# Altium schematic symbol library WE-FI.SchLib: 47 symbols
Pins are listed as number, name and electrical type; pins without a type are passive.

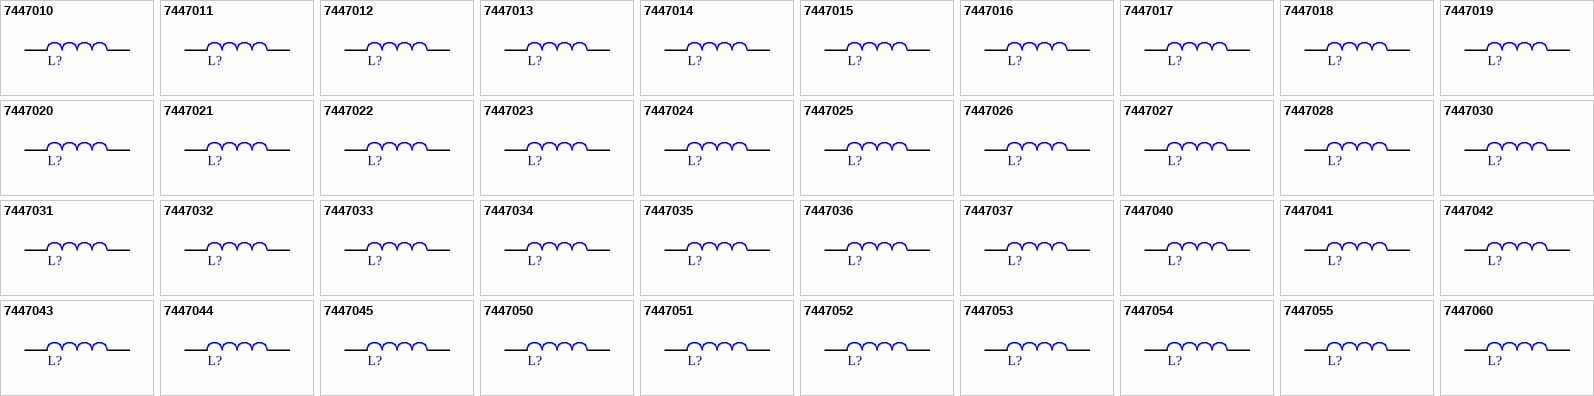
[diagram p0: symbols 7447010 to 7447060]

## 7447010
designator L?, comment 470µH  (value not drawn)
WE-FI THT Leaded Toroidal Line Choke, 470µH, 1.6A, 0.225Ω; Manufacturer Part Number: 7447010; Manufacturer: Wurth Elektronik; Category: Filter Chokes; Match Code: WE-FI; ComponentLink1Description: Website Link; ComponentLink1URL: https://www.we-online.com/redexpert/article/7447010?ad; ComponentLink2Description: Datasheet Link; ComponentLink2URL: https://www.we-online.com/redexpert/spec/7447010?ad; Mount: Through Hole; Operating Temperature Max: 105°C; Operating Temperature Min: -40°C; Packaging: Tray; Length: 18.5mm; Width: 11.6mm; Height: 18.5mm; DC Resistance Max: 0.225Ω; Inductance: 470µH; Rated Current: 1.6A
footprint 7447010
simulation model 7447010_470u
pins: 1, 2

## 7447011
designator L?, comment 130µH  (value not drawn)
WE-FI THT Leaded Toroidal Line Choke, 130µH, 2.6A, 0.085Ω; Manufacturer Part Number: 7447011; Manufacturer: Wurth Elektronik; Category: Filter Chokes; Match Code: WE-FI; ComponentLink1Description: Website Link; ComponentLink1URL: https://www.we-online.com/redexpert/article/7447011?ad; ComponentLink2Description: Datasheet Link; ComponentLink2URL: https://www.we-online.com/redexpert/spec/7447011?ad; Mount: Through Hole; Operating Temperature Max: 105°C; Operating Temperature Min: -40°C; Packaging: Tray; Length: 18.5mm; Width: 10.7mm; Height: 18.5mm; DC Resistance Max: 0.085Ω; Inductance: 130µH; Rated Current: 2.6A
footprint 7447011
simulation model 7447011_130u
pins: 1, 2

## 7447012
designator L?, comment 110µH  (value not drawn)
WE-FI THT Leaded Toroidal Line Choke, 110µH, 2.9A, 0.07Ω; Manufacturer Part Number: 7447012; Manufacturer: Wurth Elektronik; Category: Filter Chokes; Match Code: WE-FI; ComponentLink1Description: Website Link; ComponentLink1URL: https://www.we-online.com/redexpert/article/7447012?ad; ComponentLink2Description: Datasheet Link; ComponentLink2URL: https://www.we-online.com/redexpert/spec/7447012?ad; Mount: Through Hole; Operating Temperature Max: 105°C; Operating Temperature Min: -40°C; Packaging: Tray; Length: 18mm; Width: 10.7mm; Height: 18mm; DC Resistance Max: 0.07Ω; Inductance: 110µH; Rated Current: 2.9A
footprint 7447012
simulation model 7447012_110u
pins: 1, 2

## 7447013
designator L?, comment 90µH  (value not drawn)
WE-FI THT Leaded Toroidal Line Choke, 90µH, 4.6A, 0.04Ω; Manufacturer Part Number: 7447013; Manufacturer: Wurth Elektronik; Category: Filter Chokes; Match Code: WE-FI; ComponentLink1Description: Website Link; ComponentLink1URL: https://www.we-online.com/redexpert/article/7447013?ad; ComponentLink2Description: Datasheet Link; ComponentLink2URL: https://www.we-online.com/redexpert/spec/7447013?ad; Mount: Through Hole; Operating Temperature Max: 105°C; Operating Temperature Min: -40°C; Packaging: Tray; Length: 18.5mm; Width: 10.5mm; Height: 18.5mm; DC Resistance Max: 0.04Ω; Inductance: 90µH; Rated Current: 4.6A
footprint 7447013
simulation model 7447013_90u
pins: 1, 2

## 7447014
designator L?, comment 58µH  (value not drawn)
WE-FI THT Leaded Toroidal Line Choke, 58µH, 3.2A, 0.055Ω; Manufacturer Part Number: 7447014; Manufacturer: Wurth Elektronik; Category: Filter Chokes; Match Code: WE-FI; ComponentLink1Description: Website Link; ComponentLink1URL: https://www.we-online.com/redexpert/article/7447014?ad; ComponentLink2Description: Datasheet Link; ComponentLink2URL: https://www.we-online.com/redexpert/spec/7447014?ad; Mount: Through Hole; Operating Temperature Max: 105°C; Operating Temperature Min: -40°C; Packaging: Tray; Length: 18.5mm; Width: 9.2mm; Height: 18.5mm; DC Resistance Max: 0.055Ω; Inductance: 58µH; Rated Current: 3.2A
footprint 7447014
simulation model 7447014_58u
pins: 1, 2

## 7447015
designator L?, comment 35µH  (value not drawn)
WE-FI THT Leaded Toroidal Line Choke, 35µH, 5.7A, 0.025Ω; Manufacturer Part Number: 7447015; Manufacturer: Wurth Elektronik; Category: Filter Chokes; Match Code: WE-FI; ComponentLink1Description: Website Link; ComponentLink1URL: https://www.we-online.com/redexpert/article/7447015?ad; ComponentLink2Description: Datasheet Link; ComponentLink2URL: https://www.we-online.com/redexpert/spec/7447015?ad; Mount: Through Hole; Operating Temperature Max: 105°C; Operating Temperature Min: -40°C; Packaging: Tray; Length: 18.5mm; Width: 11mm; Height: 18.5mm; DC Resistance Max: 0.025Ω; Inductance: 35µH; Rated Current: 5.7A
footprint 7447015
simulation model 7447015_35u
pins: 1, 2

## 7447016
designator L?, comment 29µH  (value not drawn)
WE-FI THT Leaded Toroidal Line Choke, 29µH, 8A, 0.015Ω; Manufacturer Part Number: 7447016; Manufacturer: Wurth Elektronik; Category: Filter Chokes; Match Code: WE-FI; ComponentLink1Description: Website Link; ComponentLink1URL: https://www.we-online.com/redexpert/article/7447016?ad; ComponentLink2Description: Datasheet Link; ComponentLink2URL: https://www.we-online.com/redexpert/spec/7447016?ad; Mount: Through Hole; Operating Temperature Max: 105°C; Operating Temperature Min: -40°C; Packaging: Tray; Length: 19mm; Width: 11.1mm; Height: 19mm; DC Resistance Max: 0.015Ω; Inductance: 29µH; Rated Current: 8A
footprint 7447016
simulation model 7447016_29u
pins: 1, 2

## 7447017
designator L?, comment 22µH  (value not drawn)
WE-FI THT Leaded Toroidal Line Choke, 22µH, 9A, 0.015Ω; Manufacturer Part Number: 7447017; Manufacturer: Wurth Elektronik; Category: Filter Chokes; Match Code: WE-FI; ComponentLink1Description: Website Link; ComponentLink1URL: https://www.we-online.com/redexpert/article/7447017?ad; ComponentLink2Description: Datasheet Link; ComponentLink2URL: https://www.we-online.com/redexpert/spec/7447017?ad; Mount: Through Hole; Operating Temperature Max: 105°C; Operating Temperature Min: -40°C; Packaging: Tray; Length: 19mm; Width: 11.1mm; Height: 19mm; DC Resistance Max: 0.015Ω; Inductance: 22µH; Rated Current: 9A
footprint 7447017
simulation model 7447017_22u
pins: 1, 2

## 7447018
designator L?, comment 150µH  (value not drawn)
WE-FI THT Leaded Toroidal Line Choke, 150µH, 2.5A, 0.1Ω; Manufacturer Part Number: 7447018; Manufacturer: Wurth Elektronik; Category: Filter Chokes; Match Code: WE-FI; ComponentLink1Description: Website Link; ComponentLink1URL: https://www.we-online.com/redexpert/article/7447018?ad; ComponentLink2Description: Datasheet Link; ComponentLink2URL: https://www.we-online.com/redexpert/spec/7447018?ad; Mount: Through Hole; Operating Temperature Max: 105°C; Operating Temperature Min: -40°C; Packaging: Tray; Length: 16.5mm; Width: 10.7mm; Height: 16.5mm; DC Resistance Max: 0.1Ω; Inductance: 150µH; Rated Current: 2.5A
footprint 7447018
simulation model 7447018_150u
pins: 1, 2

## 7447019
designator L?, comment 700µH  (value not drawn)
WE-FI THT Leaded Toroidal Line Choke, 700µH, 5.1A, 0.12Ω; Manufacturer Part Number: 7447019; Manufacturer: Wurth Elektronik; Category: Filter Chokes; Match Code: WE-FI; ComponentLink1Description: Website Link; ComponentLink1URL: https://www.we-online.com/redexpert/article/7447019?ad; ComponentLink2Description: Datasheet Link; ComponentLink2URL: https://www.we-online.com/redexpert/spec/7447019?ad; Mount: Through Hole; Operating Temperature Max: 105°C; Operating Temperature Min: -40°C; Packaging: Tray; Length: 38mm; Width: 17.2mm; Height: 38mm; DC Resistance Max: 0.12Ω; Inductance: 700µH; Rated Current: 5.1A
footprint 7447019
simulation model 7447019_700u
pins: 1, 2

## 7447020
designator L?, comment 220µH  (value not drawn)
WE-FI THT Leaded Toroidal Line Choke, 220µH, 2A, 0.16Ω; Manufacturer Part Number: 7447020; Manufacturer: Wurth Elektronik; Category: Filter Chokes; Match Code: WE-FI; ComponentLink1Description: Website Link; ComponentLink1URL: https://www.we-online.com/redexpert/article/7447020?ad; ComponentLink2Description: Datasheet Link; ComponentLink2URL: https://www.we-online.com/redexpert/spec/7447020?ad; Mount: Through Hole; Operating Temperature Max: 105°C; Operating Temperature Min: -40°C; Packaging: Tray; Length: 15.8mm; Width: 9.6mm; Height: 15.8mm; DC Resistance Max: 0.16Ω; Inductance: 220µH; Rated Current: 2A
footprint 7447020
simulation model 7447020_220u
pins: 1, 2

## 7447021
designator L?, comment 100µH  (value not drawn)
WE-FI THT Leaded Toroidal Line Choke, 100µH, 2.5A, 0.08Ω; Manufacturer Part Number: 7447021; Manufacturer: Wurth Elektronik; Category: Filter Chokes; Match Code: WE-FI; ComponentLink1Description: Website Link; ComponentLink1URL: https://www.we-online.com/redexpert/article/7447021?ad; ComponentLink2Description: Datasheet Link; ComponentLink2URL: https://www.we-online.com/redexpert/spec/7447021?ad; Mount: Through Hole; Operating Temperature Max: 105°C; Operating Temperature Min: -40°C; Packaging: Tray; Length: 16.5mm; Width: 9.7mm; Height: 16.5mm; DC Resistance Max: 0.08Ω; Inductance: 100µH; Rated Current: 2.5A
footprint 7447021
simulation model 7447021_100u
pins: 1, 2

## 7447022
designator L?, comment 68µH  (value not drawn)
WE-FI THT Leaded Toroidal Line Choke, 68µH, 2.5A, 0.08Ω; Manufacturer Part Number: 7447022; Manufacturer: Wurth Elektronik; Category: Filter Chokes; Match Code: WE-FI; ComponentLink1Description: Website Link; ComponentLink1URL: https://www.we-online.com/redexpert/article/7447022?ad; ComponentLink2Description: Datasheet Link; ComponentLink2URL: https://www.we-online.com/redexpert/spec/7447022?ad; Mount: Through Hole; Operating Temperature Max: 105°C; Operating Temperature Min: -40°C; Packaging: Tray; Length: 15.5mm; Width: 7.6mm; Height: 15.5mm; DC Resistance Max: 0.08Ω; Inductance: 68µH; Rated Current: 2.5A
footprint 7447022
simulation model 7447022_68u
pins: 1, 2

## 7447023
designator L?, comment 60µH  (value not drawn)
WE-FI THT Leaded Toroidal Line Choke, 60µH, 4.1A, 0.04Ω; Manufacturer Part Number: 7447023; Manufacturer: Wurth Elektronik; Category: Filter Chokes; Match Code: WE-FI; ComponentLink1Description: Website Link; ComponentLink1URL: https://www.we-online.com/redexpert/article/7447023?ad; ComponentLink2Description: Datasheet Link; ComponentLink2URL: https://www.we-online.com/redexpert/spec/7447023?ad; Mount: Through Hole; Operating Temperature Max: 105°C; Operating Temperature Min: -40°C; Packaging: Tray; Length: 16mm; Width: 9.9mm; Height: 16mm; DC Resistance Max: 0.04Ω; Inductance: 60µH; Rated Current: 4.1A
footprint 7447023
simulation model 7447023_60u
pins: 1, 2

## 7447024
designator L?, comment 30µH  (value not drawn)
WE-FI THT Leaded Toroidal Line Choke, 30µH, 3.7A, 0.04Ω; Manufacturer Part Number: 7447024; Manufacturer: Wurth Elektronik; Category: Filter Chokes; Match Code: WE-FI; ComponentLink1Description: Website Link; ComponentLink1URL: https://www.we-online.com/redexpert/article/7447024?ad; ComponentLink2Description: Datasheet Link; ComponentLink2URL: https://www.we-online.com/redexpert/spec/7447024?ad; Mount: Through Hole; Operating Temperature Max: 105°C; Operating Temperature Min: -40°C; Packaging: Tray; Length: 15.6mm; Width: 8.7mm; Height: 15.6mm; DC Resistance Max: 0.04Ω; Inductance: 30µH; Rated Current: 3.7A
footprint 7447024
simulation model 7447024_30u
pins: 1, 2

## 7447025
designator L?, comment 20µH  (value not drawn)
WE-FI THT Leaded Toroidal Line Choke, 20µH, 5.7A, 0.02Ω; Manufacturer Part Number: 7447025; Manufacturer: Wurth Elektronik; Category: Filter Chokes; Match Code: WE-FI; ComponentLink1Description: Website Link; ComponentLink1URL: https://www.we-online.com/redexpert/article/7447025?ad; ComponentLink2Description: Datasheet Link; ComponentLink2URL: https://www.we-online.com/redexpert/spec/7447025?ad; Mount: Through Hole; Operating Temperature Max: 105°C; Operating Temperature Min: -40°C; Packaging: Tray; Length: 16mm; Width: 9.5mm; Height: 16mm; DC Resistance Max: 0.02Ω; Inductance: 20µH; Rated Current: 5.7A
footprint 7447025
simulation model 7447025_20u
pins: 1, 2

## 7447026
designator L?, comment 10µH  (value not drawn)
WE-FI THT Leaded Toroidal Line Choke, 10µH, 8A, 0.01Ω; Manufacturer Part Number: 7447026; Manufacturer: Wurth Elektronik; Category: Filter Chokes; Match Code: WE-FI; ComponentLink1Description: Website Link; ComponentLink1URL: https://www.we-online.com/redexpert/article/7447026?ad; ComponentLink2Description: Datasheet Link; ComponentLink2URL: https://www.we-online.com/redexpert/spec/7447026?ad; Mount: Through Hole; Operating Temperature Max: 105°C; Operating Temperature Min: -40°C; Packaging: Tray; Length: 17.5mm; Width: 9.1mm; Height: 17.5mm; DC Resistance Max: 0.01Ω; Inductance: 10µH; Rated Current: 8A
footprint 7447026
simulation model 7447026_10u
pins: 1, 2

## 7447027
designator L?, comment 20µH  (value not drawn)
WE-FI THT Leaded Toroidal Line Choke, 20µH, 7A, 0.015Ω; Manufacturer Part Number: 7447027; Manufacturer: Wurth Elektronik; Category: Filter Chokes; Match Code: WE-FI; ComponentLink1Description: Website Link; ComponentLink1URL: https://www.we-online.com/redexpert/article/7447027?ad; ComponentLink2Description: Datasheet Link; ComponentLink2URL: https://www.we-online.com/redexpert/spec/7447027?ad; Mount: Through Hole; Operating Temperature Max: 105°C; Operating Temperature Min: -40°C; Packaging: Tray; Length: 18.5mm; Width: 9mm; Height: 18.5mm; DC Resistance Max: 0.015Ω; Inductance: 20µH; Rated Current: 7A
footprint 7447027
simulation model 7447027_20u
pins: 1, 2

## 7447028
designator L?, comment 150µH  (value not drawn)
WE-FI THT Leaded Toroidal Line Choke, 150µH, 1.9A, 0.13Ω; Manufacturer Part Number: 7447028; Manufacturer: Wurth Elektronik; Category: Filter Chokes; Match Code: WE-FI; ComponentLink1Description: Website Link; ComponentLink1URL: https://www.we-online.com/redexpert/article/7447028?ad; ComponentLink2Description: Datasheet Link; ComponentLink2URL: https://www.we-online.com/redexpert/spec/7447028?ad; Mount: Through Hole; Operating Temperature Max: 105°C; Operating Temperature Min: -40°C; Packaging: Tray; Length: 16mm; Width: 9.1mm; Height: 16mm; DC Resistance Max: 0.13Ω; Inductance: 150µH; Rated Current: 1.9A
footprint 7447028
simulation model 7447028_150u
pins: 1, 2

## 7447030
designator L?, comment 36µH  (value not drawn)
WE-FI THT Leaded Toroidal Line Choke, 36µH, 1.6A, 0.4Ω; Manufacturer Part Number: 7447030; Manufacturer: Wurth Elektronik; Category: Filter Chokes; Match Code: WE-FI; ComponentLink1Description: Website Link; ComponentLink1URL: https://www.we-online.com/redexpert/article/7447030?ad; ComponentLink2Description: Datasheet Link; ComponentLink2URL: https://www.we-online.com/redexpert/spec/7447030?ad; Mount: Through Hole; Operating Temperature Max: 105°C; Operating Temperature Min: -40°C; Packaging: Tray; Length: 13.5mm; Width: 7.4mm; Height: 13.5mm; DC Resistance Max: 0.4Ω; Inductance: 36µH; Rated Current: 1.6A
footprint 7447030
simulation model 7447030_36u
pins: 1, 2

## 7447031
designator L?, comment 140µH  (value not drawn)
WE-FI THT Leaded Toroidal Line Choke, 140µH, 2A, 0.11Ω; Manufacturer Part Number: 7447031; Manufacturer: Wurth Elektronik; Category: Filter Chokes; Match Code: WE-FI; ComponentLink1Description: Website Link; ComponentLink1URL: https://www.we-online.com/redexpert/article/7447031?ad; ComponentLink2Description: Datasheet Link; ComponentLink2URL: https://www.we-online.com/redexpert/spec/7447031?ad; Mount: Through Hole; Operating Temperature Max: 105°C; Operating Temperature Min: -40°C; Packaging: Tray; Length: 13.5mm; Width: 8.6mm; Height: 13.5mm; DC Resistance Max: 0.11Ω; Inductance: 140µH; Rated Current: 2A
footprint 7447031
simulation model 7447031_140u
pins: 1, 2

## 7447032
designator L?, comment 110µH  (value not drawn)
WE-FI THT Leaded Toroidal Line Choke, 110µH, 1.3A, 0.23Ω; Manufacturer Part Number: 7447032; Manufacturer: Wurth Elektronik; Category: Filter Chokes; Match Code: WE-FI; ComponentLink1Description: Website Link; ComponentLink1URL: https://www.we-online.com/redexpert/article/7447032?ad; ComponentLink2Description: Datasheet Link; ComponentLink2URL: https://www.we-online.com/redexpert/spec/7447032?ad; Mount: Through Hole; Operating Temperature Max: 105°C; Operating Temperature Min: -40°C; Packaging: Tray; Length: 13.5mm; Width: 7.4mm; Height: 13.5mm; DC Resistance Max: 0.23Ω; Inductance: 110µH; Rated Current: 1.3A
footprint 7447032
simulation model 7447032_110u
pins: 1, 2

## 7447033
designator L?, comment 68µH  (value not drawn)
WE-FI THT Leaded Toroidal Line Choke, 68µH, 2.8A, 0.055Ω; Manufacturer Part Number: 7447033; Manufacturer: Wurth Elektronik; Category: Filter Chokes; Match Code: WE-FI; ComponentLink1Description: Website Link; ComponentLink1URL: https://www.we-online.com/redexpert/article/7447033?ad; ComponentLink2Description: Datasheet Link; ComponentLink2URL: https://www.we-online.com/redexpert/spec/7447033?ad; Mount: Through Hole; Operating Temperature Max: 105°C; Operating Temperature Min: -40°C; Packaging: Tray; Length: 14mm; Width: 8.7mm; Height: 14mm; DC Resistance Max: 0.055Ω; Inductance: 68µH; Rated Current: 2.8A
footprint 7447033
simulation model 7447033_68u
pins: 1, 2

## 7447034
designator L?, comment 43µH  (value not drawn)
WE-FI THT Leaded Toroidal Line Choke, 43µH, 2.6A, 0.06Ω; Manufacturer Part Number: 7447034; Manufacturer: Wurth Elektronik; Category: Filter Chokes; Match Code: WE-FI; ComponentLink1Description: Website Link; ComponentLink1URL: https://www.we-online.com/redexpert/article/7447034?ad; ComponentLink2Description: Datasheet Link; ComponentLink2URL: https://www.we-online.com/redexpert/spec/7447034?ad; Mount: Through Hole; Operating Temperature Max: 105°C; Operating Temperature Min: -40°C; Packaging: Tray; Length: 13.5mm; Width: 7.5mm; Height: 13.5mm; DC Resistance Max: 0.06Ω; Inductance: 43µH; Rated Current: 2.6A
footprint 7447034
simulation model 7447034_43u
pins: 1, 2

## 7447035
designator L?, comment 15µH  (value not drawn)
WE-FI THT Leaded Toroidal Line Choke, 15µH, 4.5A, 0.025Ω; Manufacturer Part Number: 7447035; Manufacturer: Wurth Elektronik; Category: Filter Chokes; Match Code: WE-FI; ComponentLink1Description: Website Link; ComponentLink1URL: https://www.we-online.com/redexpert/article/7447035?ad; ComponentLink2Description: Datasheet Link; ComponentLink2URL: https://www.we-online.com/redexpert/spec/7447035?ad; Mount: Through Hole; Operating Temperature Max: 105°C; Operating Temperature Min: -40°C; Packaging: Tray; Length: 13.5mm; Width: 6.7mm; Height: 13.5mm; DC Resistance Max: 0.025Ω; Inductance: 15µH; Rated Current: 4.5A
footprint 7447035
simulation model 7447035_15u
pins: 1, 2

## 7447036
designator L?, comment 220µH  (value not drawn)
WE-FI THT Leaded Toroidal Line Choke, 220µH, 1.4A, 0.22Ω; Manufacturer Part Number: 7447036; Manufacturer: Wurth Elektronik; Category: Filter Chokes; Match Code: WE-FI; ComponentLink1Description: Website Link; ComponentLink1URL: https://www.we-online.com/redexpert/article/7447036?ad; ComponentLink2Description: Datasheet Link; ComponentLink2URL: https://www.we-online.com/redexpert/spec/7447036?ad; Mount: Through Hole; Operating Temperature Max: 105°C; Operating Temperature Min: -40°C; Packaging: Tray; Length: 14mm; Width: 8.5mm; Height: 14mm; DC Resistance Max: 0.22Ω; Inductance: 220µH; Rated Current: 1.4A
footprint 7447036
simulation model 7447036_220u
pins: 1, 2

## 7447037
designator L?, comment 360µH  (value not drawn)
WE-FI THT Leaded Toroidal Line Choke, 360µH, 0.9A, 0.45Ω; Manufacturer Part Number: 7447037; Manufacturer: Wurth Elektronik; Category: Filter Chokes; Match Code: WE-FI; ComponentLink1Description: Website Link; ComponentLink1URL: https://www.we-online.com/redexpert/article/7447037?ad; ComponentLink2Description: Datasheet Link; ComponentLink2URL: https://www.we-online.com/redexpert/spec/7447037?ad; Mount: Through Hole; Operating Temperature Max: 105°C; Operating Temperature Min: -40°C; Packaging: Tray; Length: 13.5mm; Width: 7.3mm; Height: 13.5mm; DC Resistance Max: 0.45Ω; Inductance: 360µH; Rated Current: 0.9A
footprint 7447037
simulation model 7447037_360u
pins: 1, 2

## 7447040
designator L?, comment 240µH  (value not drawn)
WE-FI THT Leaded Toroidal Line Choke, 240µH, 1A, 0.38Ω; Manufacturer Part Number: 7447040; Manufacturer: Wurth Elektronik; Category: Filter Chokes; Match Code: WE-FI; ComponentLink1Description: Website Link; ComponentLink1URL: https://www.we-online.com/redexpert/article/7447040?ad; ComponentLink2Description: Datasheet Link; ComponentLink2URL: https://www.we-online.com/redexpert/spec/7447040?ad; Mount: Through Hole; Operating Temperature Max: 105°C; Operating Temperature Min: -40°C; Packaging: Tray; Length: 11.5mm; Width: 6.9mm; Height: 11.5mm; DC Resistance Max: 0.38Ω; Inductance: 240µH; Rated Current: 1A
footprint 7447040
simulation model 7447040_240u
pins: 1, 2

## 7447041
designator L?, comment 68µH  (value not drawn)
WE-FI THT Leaded Toroidal Line Choke, 68µH, 1.5A, 0.1Ω; Manufacturer Part Number: 7447041; Manufacturer: Wurth Elektronik; Category: Filter Chokes; Match Code: WE-FI; ComponentLink1Description: Website Link; ComponentLink1URL: https://www.we-online.com/redexpert/article/7447041?ad; ComponentLink2Description: Datasheet Link; ComponentLink2URL: https://www.we-online.com/redexpert/spec/7447041?ad; Mount: Through Hole; Operating Temperature Max: 105°C; Operating Temperature Min: -40°C; Packaging: Tray; Length: 12mm; Width: 7mm; Height: 12mm; DC Resistance Max: 0.1Ω; Inductance: 68µH; Rated Current: 1.5A
footprint 7447041
simulation model 7447041_68u
pins: 1, 2

## 7447042
designator L?, comment 56µH  (value not drawn)
WE-FI THT Leaded Toroidal Line Choke, 56µH, 1.4A, 0.18Ω; Manufacturer Part Number: 7447042; Manufacturer: Wurth Elektronik; Category: Filter Chokes; Match Code: WE-FI; ComponentLink1Description: Website Link; ComponentLink1URL: https://www.we-online.com/redexpert/article/7447042?ad; ComponentLink2Description: Datasheet Link; ComponentLink2URL: https://www.we-online.com/redexpert/spec/7447042?ad; Mount: Through Hole; Operating Temperature Max: 105°C; Operating Temperature Min: -40°C; Packaging: Tray; Length: 11.5mm; Width: 5mm; Height: 11.5mm; DC Resistance Max: 0.18Ω; Inductance: 56µH; Rated Current: 1.4A
footprint 7447042
simulation model 7447042_56u
pins: 1, 2

## 7447043
designator L?, comment 24µH  (value not drawn)
WE-FI THT Leaded Toroidal Line Choke, 24µH, 3A, 0.045Ω; Manufacturer Part Number: 7447043; Manufacturer: Wurth Elektronik; Category: Filter Chokes; Match Code: WE-FI; ComponentLink1Description: Website Link; ComponentLink1URL: https://www.we-online.com/redexpert/article/7447043?ad; ComponentLink2Description: Datasheet Link; ComponentLink2URL: https://www.we-online.com/redexpert/spec/7447043?ad; Mount: Through Hole; Operating Temperature Max: 105°C; Operating Temperature Min: -40°C; Packaging: Tray; Length: 12mm; Width: 5.5mm; Height: 12mm; DC Resistance Max: 0.045Ω; Inductance: 24µH; Rated Current: 3A
footprint 7447043
simulation model 7447043_24u
pins: 1, 2

## 7447044
designator L?, comment 22µH  (value not drawn)
WE-FI THT Leaded Toroidal Line Choke, 22µH, 3.5A, 0.03Ω; Manufacturer Part Number: 7447044; Manufacturer: Wurth Elektronik; Category: Filter Chokes; Match Code: WE-FI; ComponentLink1Description: Website Link; ComponentLink1URL: https://www.we-online.com/redexpert/article/7447044?ad; ComponentLink2Description: Datasheet Link; ComponentLink2URL: https://www.we-online.com/redexpert/spec/7447044?ad; Mount: Through Hole; Operating Temperature Max: 105°C; Operating Temperature Min: -40°C; Packaging: Tray; Length: 12mm; Width: 7.7mm; Height: 12mm; DC Resistance Max: 0.03Ω; Inductance: 22µH; Rated Current: 3.5A
footprint 7447044
simulation model 7447044_22u
pins: 1, 2

## 7447045
designator L?, comment 8.2µH  (value not drawn)
WE-FI THT Leaded Toroidal Line Choke, 8.2µH, 5A, 0.02Ω; Manufacturer Part Number: 7447045; Manufacturer: Wurth Elektronik; Category: Filter Chokes; Match Code: WE-FI; ComponentLink1Description: Website Link; ComponentLink1URL: https://www.we-online.com/redexpert/article/7447045?ad; ComponentLink2Description: Datasheet Link; ComponentLink2URL: https://www.we-online.com/redexpert/spec/7447045?ad; Mount: Through Hole; Operating Temperature Max: 105°C; Operating Temperature Min: -40°C; Packaging: Tray; Length: 12mm; Width: 5.5mm; Height: 12mm; DC Resistance Max: 0.02Ω; Inductance: 8.2µH; Rated Current: 5A
footprint 7447045
simulation model 7447045_8.2u
pins: 1, 2

## 7447050
designator L?, comment 140µH  (value not drawn)
WE-FI THT Leaded Toroidal Line Choke, 140µH, 1.1A, 0.26Ω; Manufacturer Part Number: 7447050; Manufacturer: Wurth Elektronik; Category: Filter Chokes; Match Code: WE-FI; ComponentLink1Description: Website Link; ComponentLink1URL: https://www.we-online.com/redexpert/article/7447050?ad; ComponentLink2Description: Datasheet Link; ComponentLink2URL: https://www.we-online.com/redexpert/spec/7447050?ad; Mount: Through Hole; Operating Temperature Max: 105°C; Operating Temperature Min: -40°C; Packaging: Tray; Length: 9.5mm; Width: 6mm; Height: 9.5mm; DC Resistance Max: 0.26Ω; Inductance: 140µH; Rated Current: 1.1A
footprint 7447050
simulation model 7447050_140u
pins: 1, 2

## 7447051
designator L?, comment 37µH  (value not drawn)
WE-FI THT Leaded Toroidal Line Choke, 37µH, 1.3A, 0.12Ω; Manufacturer Part Number: 7447051; Manufacturer: Wurth Elektronik; Category: Filter Chokes; Match Code: WE-FI; ComponentLink1Description: Website Link; ComponentLink1URL: https://www.we-online.com/redexpert/article/7447051?ad; ComponentLink2Description: Datasheet Link; ComponentLink2URL: https://www.we-online.com/redexpert/spec/7447051?ad; Mount: Through Hole; Operating Temperature Max: 105°C; Operating Temperature Min: -40°C; Packaging: Tray; Length: 9.5mm; Width: 6.4mm; Height: 9.5mm; DC Resistance Max: 0.12Ω; Inductance: 37µH; Rated Current: 1.3A
footprint 7447051
simulation model 7447051_37u
pins: 1, 2

## 7447052
designator L?, comment 32µH  (value not drawn)
WE-FI THT Leaded Toroidal Line Choke, 32µH, 2.6A, 0.045Ω; Manufacturer Part Number: 7447052; Manufacturer: Wurth Elektronik; Category: Filter Chokes; Match Code: WE-FI; ComponentLink1Description: Website Link; ComponentLink1URL: https://www.we-online.com/redexpert/article/7447052?ad; ComponentLink2Description: Datasheet Link; ComponentLink2URL: https://www.we-online.com/redexpert/spec/7447052?ad; Mount: Through Hole; Operating Temperature Max: 105°C; Operating Temperature Min: -40°C; Packaging: Tray; Length: 10mm; Width: 6.6mm; Height: 10mm; DC Resistance Max: 0.045Ω; Inductance: 32µH; Rated Current: 2.6A
footprint 7447052
simulation model 7447052_32u
pins: 1, 2

## 7447053
designator L?, comment 12µH  (value not drawn)
WE-FI THT Leaded Toroidal Line Choke, 12µH, 1A, 0.03Ω; Manufacturer Part Number: 7447053; Manufacturer: Wurth Elektronik; Category: Filter Chokes; Match Code: WE-FI; ComponentLink1Description: Website Link; ComponentLink1URL: https://www.we-online.com/redexpert/article/7447053?ad; ComponentLink2Description: Datasheet Link; ComponentLink2URL: https://www.we-online.com/redexpert/spec/7447053?ad; Mount: Through Hole; Operating Temperature Max: 105°C; Operating Temperature Min: -40°C; Packaging: Tray; Length: 10mm; Width: 5mm; Height: 10mm; DC Resistance Max: 0.03Ω; Inductance: 12µH; Rated Current: 1A
footprint 7447053
simulation model 7447053_12u
pins: 1, 2

## 7447054
designator L?, comment 10µH  (value not drawn)
WE-FI THT Leaded Toroidal Line Choke, 10µH, 5A, 0.02Ω; Manufacturer Part Number: 7447054; Manufacturer: Wurth Elektronik; Category: Filter Chokes; Match Code: WE-FI; ComponentLink1Description: Website Link; ComponentLink1URL: https://www.we-online.com/redexpert/article/7447054?ad; ComponentLink2Description: Datasheet Link; ComponentLink2URL: https://www.we-online.com/redexpert/spec/7447054?ad; Mount: Through Hole; Operating Temperature Max: 105°C; Operating Temperature Min: -40°C; Packaging: Tray; Length: 10.5mm; Width: 7.8mm; Height: 10.5mm; DC Resistance Max: 0.02Ω; Inductance: 10µH; Rated Current: 5A
footprint 7447054
simulation model 7447054_10u
pins: 1, 2

## 7447055
designator L?, comment 150µH  (value not drawn)
WE-FI THT Leaded Toroidal Line Choke, 150µH, 5.4A, 0.042Ω; Manufacturer Part Number: 7447055; Manufacturer: Wurth Elektronik; Category: Filter Chokes; Match Code: WE-FI; ComponentLink1Description: Website Link; ComponentLink1URL: https://www.we-online.com/redexpert/article/7447055?ad; ComponentLink2Description: Datasheet Link; ComponentLink2URL: https://www.we-online.com/redexpert/spec/7447055?ad; Mount: Through Hole; Operating Temperature Max: 105°C; Operating Temperature Min: -40°C; Packaging: Tray; Length: 26mm; Width: 13mm; Height: 26mm; DC Resistance Max: 0.042Ω; Inductance: 150µH; Rated Current: 5.4A
footprint 7447055
simulation model 7447055_150u
pins: 1, 2

## 7447060
designator L?, comment 300µH  (value not drawn)
WE-FI THT Leaded Toroidal Line Choke, 300µH, 2.5A, 0.15Ω; Manufacturer Part Number: 7447060; Manufacturer: Wurth Elektronik; Category: Filter Chokes; Match Code: WE-FI; ComponentLink1Description: Website Link; ComponentLink1URL: https://www.we-online.com/redexpert/article/7447060?ad; ComponentLink2Description: Datasheet Link; ComponentLink2URL: https://www.we-online.com/redexpert/spec/7447060?ad; Mount: Through Hole; Operating Temperature Max: 105°C; Operating Temperature Min: -40°C; Packaging: Tray; Length: 21mm; Width: 11.2mm; Height: 21mm; DC Resistance Max: 0.15Ω; Inductance: 300µH; Rated Current: 2.5A
footprint 7447060
simulation model 7447060_300u
pins: 1, 2

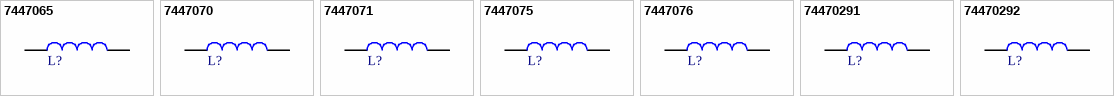
[diagram p1: symbols 7447065 to 74470292]

## 7447065
designator L?, comment 330µH  (value not drawn)
WE-FI THT Leaded Toroidal Line Choke, 330µH, 3.1A, 0.085Ω; Manufacturer Part Number: 7447065; Manufacturer: Wurth Elektronik; Category: Filter Chokes; Match Code: WE-FI; ComponentLink1Description: Website Link; ComponentLink1URL: https://www.we-online.com/redexpert/article/7447065?ad; ComponentLink2Description: Datasheet Link; ComponentLink2URL: https://www.we-online.com/redexpert/spec/7447065?ad; Mount: Through Hole; Operating Temperature Max: 105°C; Operating Temperature Min: -40°C; Packaging: Tray; Length: 26mm; Width: 12.9mm; Height: 26mm; DC Resistance Max: 0.085Ω; Inductance: 330µH; Rated Current: 3.1A
footprint 7447065
simulation model 7447065_330u
pins: 1, 2

## 7447070
designator L?, comment 100µH  (value not drawn)
WE-FI THT Leaded Toroidal Line Choke, 100µH, 6A, 0.035Ω; Manufacturer Part Number: 7447070; Manufacturer: Wurth Elektronik; Category: Filter Chokes; Match Code: WE-FI; ComponentLink1Description: Website Link; ComponentLink1URL: https://www.we-online.com/redexpert/article/7447070?ad; ComponentLink2Description: Datasheet Link; ComponentLink2URL: https://www.we-online.com/redexpert/spec/7447070?ad; Mount: Through Hole; Operating Temperature Max: 105°C; Operating Temperature Min: -40°C; Packaging: Tray; Length: 25mm; Width: 11.5mm; Height: 25mm; DC Resistance Max: 0.035Ω; Inductance: 100µH; Rated Current: 6A
footprint 7447070
simulation model 7447070_100u
pins: 1, 2

## 7447071
designator L?, comment 470µH  (value not drawn)
WE-FI THT Leaded Toroidal Line Choke, 470µH, 3A, 0.11Ω; Manufacturer Part Number: 7447071; Manufacturer: Wurth Elektronik; Category: Filter Chokes; Match Code: WE-FI; ComponentLink1Description: Website Link; ComponentLink1URL: https://www.we-online.com/redexpert/article/7447071?ad; ComponentLink2Description: Datasheet Link; ComponentLink2URL: https://www.we-online.com/redexpert/spec/7447071?ad; Mount: Through Hole; Operating Temperature Max: 105°C; Operating Temperature Min: -40°C; Packaging: Tray; Length: 25mm; Width: 13.4mm; Height: 25mm; DC Resistance Max: 0.11Ω; Inductance: 470µH; Rated Current: 3A
footprint 7447071
simulation model 7447071_470u
pins: 1, 2

## 7447075
designator L?, comment 860µH  (value not drawn)
WE-FI THT Leaded Toroidal Line Choke, 860µH, 3A, 0.15Ω; Manufacturer Part Number: 7447075; Manufacturer: Wurth Elektronik; Category: Filter Chokes; Match Code: WE-FI; ComponentLink1Description: Website Link; ComponentLink1URL: https://www.we-online.com/redexpert/article/7447075?ad; ComponentLink2Description: Datasheet Link; ComponentLink2URL: https://www.we-online.com/redexpert/spec/7447075?ad; Mount: Through Hole; Operating Temperature Max: 105°C; Operating Temperature Min: -40°C; Packaging: Tray; Length: 28.5mm; Width: 16.4mm; Height: 28.5mm; DC Resistance Max: 0.15Ω; Inductance: 860µH; Rated Current: 3A
footprint 7447075
simulation model 7447075_860u
pins: 1, 2

## 7447076
designator L?, comment 150µH  (value not drawn)
WE-FI THT Leaded Toroidal Line Choke, 150µH, 6.1A, 0.045Ω; Manufacturer Part Number: 7447076; Manufacturer: Wurth Elektronik; Category: Filter Chokes; Match Code: WE-FI; ComponentLink1Description: Website Link; ComponentLink1URL: https://www.we-online.com/redexpert/article/7447076?ad; ComponentLink2Description: Datasheet Link; ComponentLink2URL: https://www.we-online.com/redexpert/spec/7447076?ad; Mount: Through Hole; Operating Temperature Max: 105°C; Operating Temperature Min: -40°C; Packaging: Tray; Length: 27.5mm; Width: 13.6mm; Height: 27.5mm; DC Resistance Max: 0.045Ω; Inductance: 150µH; Rated Current: 6.1A
footprint 7447076
simulation model 7447076_150u
pins: 1, 2

## 74470291
designator L?, comment 220µH  (value not drawn)
WE-FI THT Leaded Toroidal Line Choke, 220µH, 1.8A, 0.15Ω; Manufacturer Part Number: 74470291; Manufacturer: Wurth Elektronik; Category: Filter Chokes; Match Code: WE-FI; ComponentLink1Description: Website Link; ComponentLink1URL: https://www.we-online.com/redexpert/article/74470291?ad; ComponentLink2Description: Datasheet Link; ComponentLink2URL: https://www.we-online.com/redexpert/spec/74470291?ad; Mount: Through Hole; Operating Temperature Max: 105°C; Operating Temperature Min: -40°C; Packaging: Tray; Length: 17.5mm; Width: 9.5mm; Height: 17.5mm; DC Resistance Max: 0.15Ω; Inductance: 220µH; Rated Current: 1.8A
footprint 74470291
simulation model 74470291_220u
pins: 1, 2

## 74470292
designator L?, comment 130µH  (value not drawn)
WE-FI THT Leaded Toroidal Line Choke, 130µH, 3A, 0.09Ω; Manufacturer Part Number: 74470292; Manufacturer: Wurth Elektronik; Category: Filter Chokes; Match Code: WE-FI; ComponentLink1Description: Website Link; ComponentLink1URL: https://www.we-online.com/redexpert/article/74470292?ad; ComponentLink2Description: Datasheet Link; ComponentLink2URL: https://www.we-online.com/redexpert/spec/74470292?ad; Mount: Through Hole; Operating Temperature Max: 105°C; Operating Temperature Min: -40°C; Packaging: Tray; Length: 17.5mm; Width: 13mm; Height: 17.5mm; DC Resistance Max: 0.09Ω; Inductance: 130µH; Rated Current: 3A
footprint 74470292
simulation model 74470292_130u
pins: 1, 2